# Altium schematic symbol library ultravolt.SchLib: 1 symbol
Pins are listed as number, name and electrical type; pins without a type are passive.

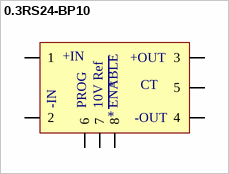
[diagram p0: symbol 0.3RS24-BP10]

## 0.3RS24-BP10
designator *
footprint 0.3RS24-BP10 (28 to 600 V)
pins: 1, 2, 3, 4, 5, 6, 7, 8
text: +IN; +OUT; CT; -IN; PROG; 10V Ref; ENABLE; -OUT